# Altium footprint library CMA-4544PF-W.PCBLIB: 1 footprints
Each footprint in its own frame and in the unit in brackets; x right, y up, seen from the top. Pads: shape width x height; smd on the part's side, far side on the other; paste and mask are expansions set on the pad; w line width, h text height; cw(c..) or ccw(c..) is an arc to the next point about the centre after c.
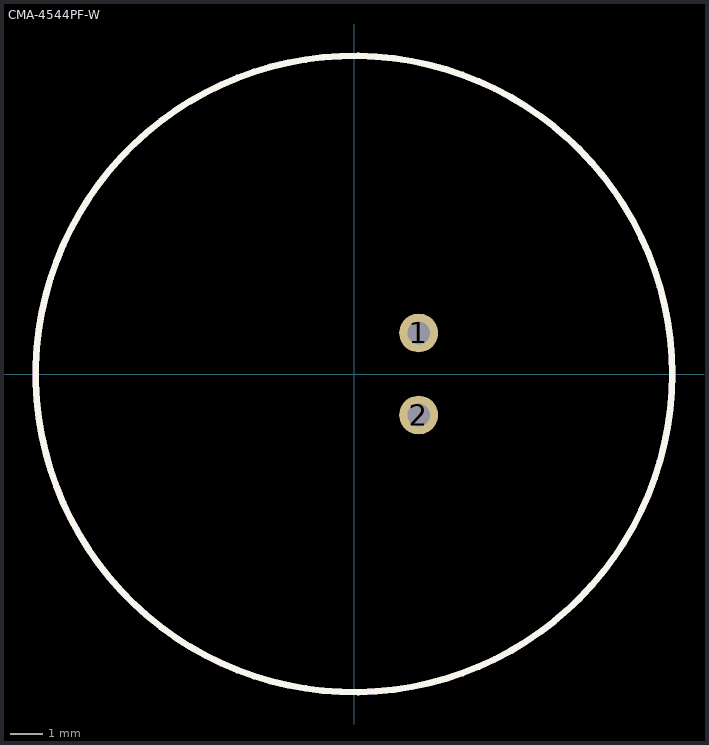
[diagram p0: the footprint, top view; thin cyan lines are the x and y axes]

## CMA-4544PF-W [mm]
pads (2):
  round 1.2 / inner round 1.524 / far side round 1.2 hole 0.7: 1(2,1.27) 2(2,-1.27)
Top Overlay:
  circle w0.2: c0,0 r9.85
Mechanical 8:
  circle w0.2: c0,0 r9.85